# Altium integrated library LQG15HN2N0C02D.IntLib: 1 symbol
Pins are listed as number, name and electrical type; pins without a type are passive.

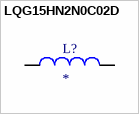
[diagram p0: symbol LQG15HN2N0C02D]

## LQG15HN2N0C02D
designator L?
FIXED IND 2NH 900MA 90 MOHM; MP: LQG15HN2N0C02D; Package: None; Price: None; Value: *; Availability: Unavailable
footprint INDC1005X55N
pins: 1, 2